# EAGLE library part LTC6419 (library Analog Devices)
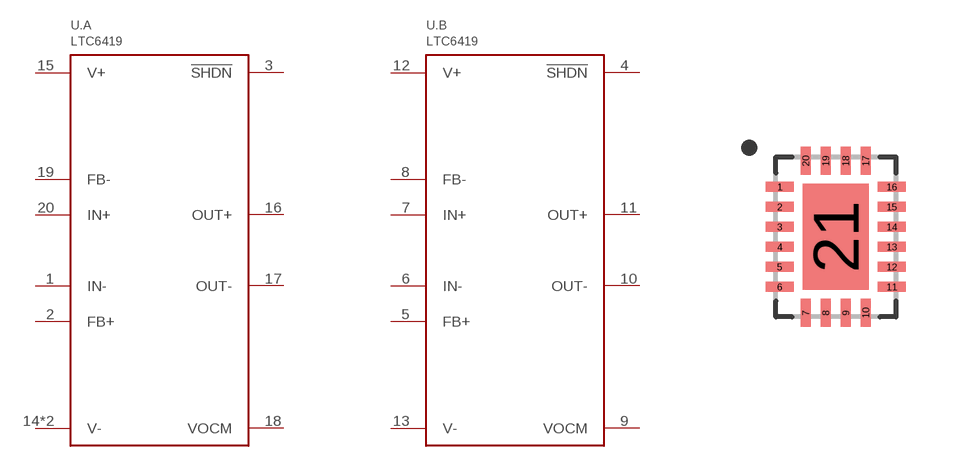
[diagram p55: symbol with the pads of QFN20_ASYM_3X4; footprint QFN20_ASYM_3X4]

Designator prefix U; gates .A=LTC6419 .B=LTC6419

## LTC6419  [QFN20_ASYM_3X4]
1  .A:IN-
2  .A:FB+
3  .A:!SHDN
4  .B:!SHDN
5  .B:FB+
6  .B:IN-
7  .B:IN+
8  .B:FB-
9  .B:VOCM
10  .B:OUT-
11  .B:OUT+
12  .B:V+
13  .B:V-
14  .A:V-
15  .A:V+
16  .A:OUT+
17  .A:OUT-
18  .A:VOCM
19  .A:FB-
20  .A:IN+
21  .A:V-

## Footprint QFN20_ASYM_3X4 (pad centres in mm)
smd 0.7 x 0.25: 1 -1.4,1.25; 2 -1.4,0.75; 3 -1.4,0.25; 4 -1.4,-0.25; 5 -1.4,-0.75; 6 -1.4,-1.25; 11 1.4,-1.25; 12 1.4,-0.75; 13 1.4,-0.25; 14 1.4,0.25; 15 1.4,0.75; 16 1.4,1.25
smd 0.25 x 0.7: 7 -0.75,-1.9; 8 -0.25,-1.9; 9 0.25,-1.9; 10 0.75,-1.9; 17 0.75,1.9; 18 0.25,1.9; 19 -0.25,1.9; 20 -0.75,1.9
smd 1.65 x 2.65: 21 0,0